# Altium footprint library CONN BNC JACK RA 50 OHM PCB.PcbLib: 1 footprints
Each footprint in its own frame and in the unit in brackets; x right, y up, seen from the top. Pads: shape width x height; smd on the part's side, far side on the other; paste and mask are expansions set on the pad; w line width, h text height; cw(c..) or ccw(c..) is an arc to the next point about the centre after c.
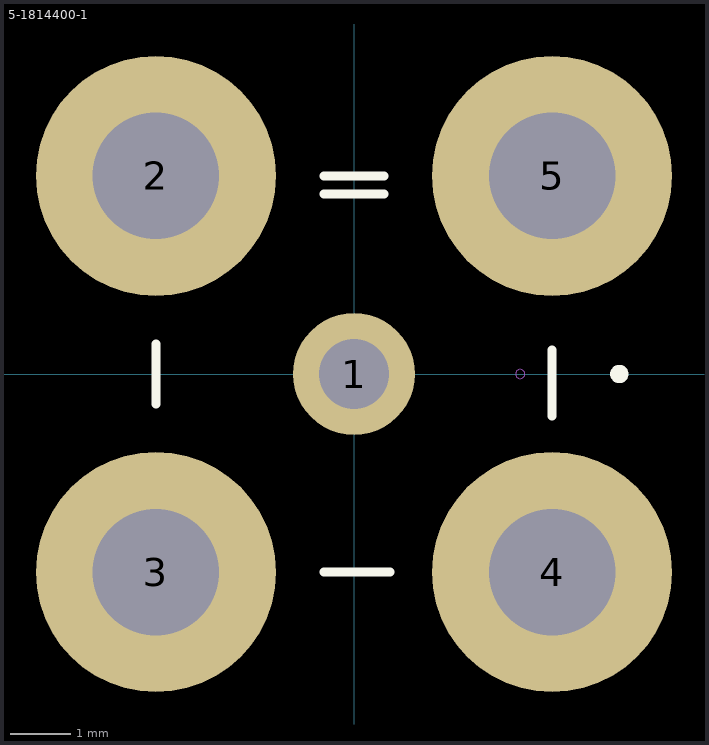
[diagram p0: the footprint, top view; thin cyan lines are the x and y axes]

## 5-1814400-1 [mm]
pads (5):
  round 2.032 / inner round 1.524 / far side round 2.032 hole 1.17: 1(0,0)
  round 4 hole 2.11: 2(-3.3,3.3) 3(-3.3,-3.3) 5(3.3,3.3)
  round 4 hole 2.11 paste+1: 4(3.3,-3.3)
Top Overlay:
  circle w0.152: c4.42,0 r0.076
  lines w0.152: -3.3,-0.5 -3.3,0.5 ; -0.5,-3.3 0.6,-3.3 ; -0.5,3 0.5,3 ; -0.5,3.3 0.5,3.3 ; 3.3,-0.7 3.3,0.4
Mechanical 13:
  circle w0: c2.769,0 r0.076
3D body: height 0.25, standoff 0, extent 0,0 0.254,0.254